# EAGLE library part AD8694 (library all-chips)
AD8694 Analog Devices Low Cost, Low Noise, CMOS, RRO Operational Amplifiers
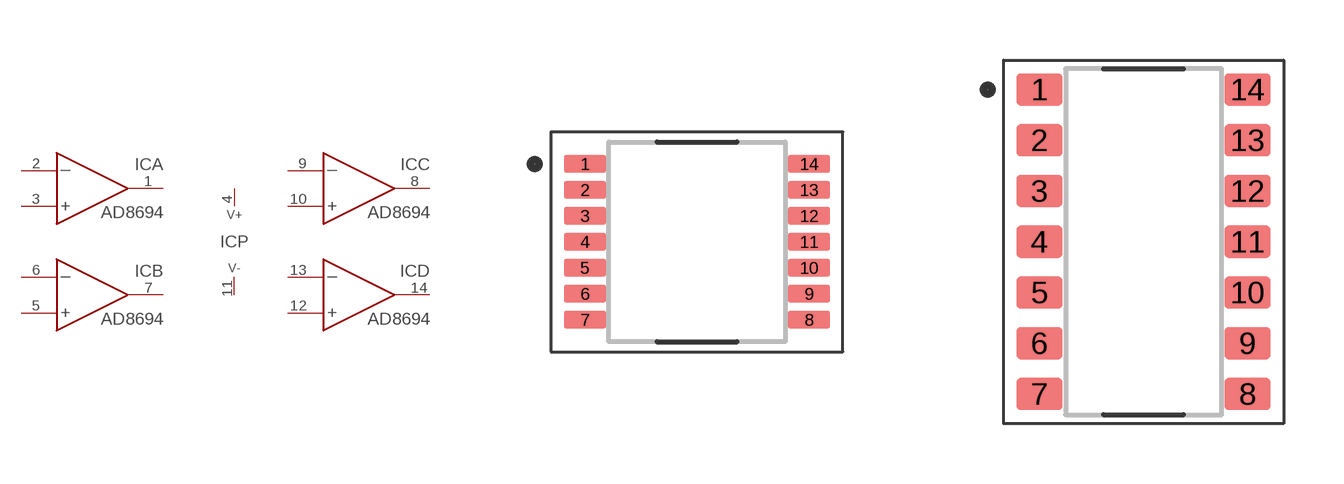
[diagram p26: symbol with the pads of SOP14_4.40X5.00MM; footprints SOP14_4.40X5.00MM, SOIC14_3.90X8.65MM]

Designator prefix IC; gates A=OPAMP_SIMPLE B=OPAMP_SIMPLE P=POWER_DUAL C=OPAMP_SIMPLE D=OPAMP_SIMPLE

## AD8694*ARUZ  [SOP14_4.40X5.00MM]
1  A:OUT  out
2  A:IN-  in
3  A:IN+  in
4  P:V+  pwr
5  B:IN+  in
6  B:IN-  in
7  B:OUT  out
8  C:OUT  out
9  C:IN-  in
10  C:IN+  in
11  P:V-  pwr
12  D:IN+  in
13  D:IN-  in
14  D:OUT  out

## AD8694ARZ  [SOIC14_3.90X8.65MM]
Pads as for SOP14_4.40X5.00MM

## Footprint SOP14_4.40X5.00MM (pad centres in mm)
https://www.analog.com/media/en/package-pcb-resources/package/pkg_pdf/ltc-legacy-tssop/TSSOP_14_05-08-1650.pdf
smd 1.05 x 0.45: 1 -2.8,1.95; 2 -2.8,1.3; 3 -2.8,0.65; 4 -2.8,0; 5 -2.8,-0.65; 6 -2.8,-1.3; 7 -2.8,-1.95; 8 2.8,-1.95; 9 2.8,-1.3; 10 2.8,-0.65; 11 2.8,0; 12 2.8,0.65; 13 2.8,1.3; 14 2.8,1.95

## Footprint SOIC14_3.90X8.65MM (pad centres in mm)
https://www.analog.com/media/en/package-pcb-resources/package/pkg_pdf/ltc-legacy-soic/05081610_G_S14.pdf
smd 1.15 x 0.8: 1 -2.6,3.81; 2 -2.6,2.54; 3 -2.6,1.27; 4 -2.6,0; 5 -2.6,-1.27; 6 -2.6,-2.54; 7 -2.6,-3.81; 8 2.6,-3.81; 9 2.6,-2.54; 10 2.6,-1.27; 11 2.6,0; 12 2.6,1.27; 13 2.6,2.54; 14 2.6,3.81